# Altium schematic symbol library TPS70925DBVR.SchLib: 1 symbol
Pins are listed as number, name and electrical type; pins without a type are passive.

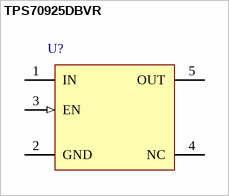
[diagram p0: symbol TPS70925DBVR]

## TPS70925DBVR
designator U?
pins: 1 IN (power), 2 GND (power), 3 EN (in), 4 NC, 5 OUT (power)